# EAGLE library part NJM11100 (library user_ic)
可変型レギュレータ 秋月電子[I-06655]
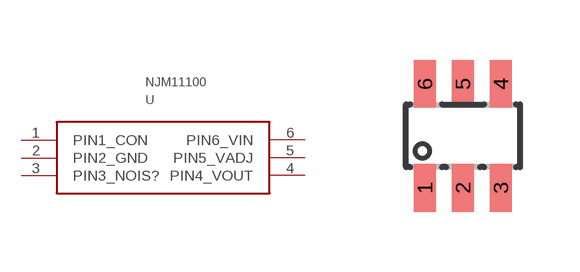
[diagram p20: symbol with the pads of SOT23-6; footprint SOT23-6]

Designator prefix -

## NJM11100  [SOT23-6]
1  PIN1_CON
2  PIN2_GND
3  PIN3_NOIS?
4  PIN4_VOUT
5  PIN5_VADJ
6  PIN6_VIN

## Footprint SOT23-6 (pad centres in mm)
smd 0.55 x 1.2: 1 -0.95,-1.3; 2 0,-1.3; 3 0.95,-1.3; 4 0.95,1.3; 5 0,1.3; 6 -0.95,1.3